# EAGLE library part ATLAS-SENSOR (library Webmaster442)
Atlas Scientific Sensors http://www.atlas-scientific.com/
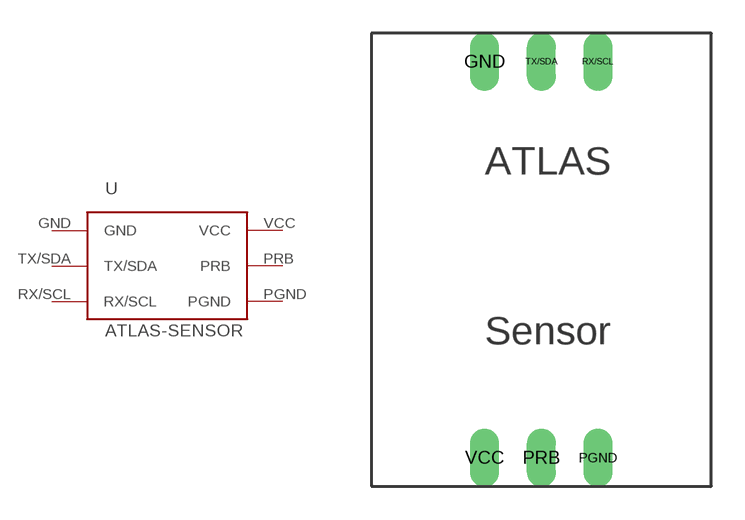
[diagram p21: symbol with the pads of ATLAS-SENSOR; footprint ATLAS-SENSOR]

Designator prefix -

## ATLAS-SENSOR  [ATLAS-SENSOR]
GND  GND
PGND  PGND
PRB  PRB
RX/SCL  RX/SCL
TX/SDA  TX/SDA
VCC  VCC

## Footprint ATLAS-SENSOR (pad centres in mm)
drill 0.8 long: GND -2.54,7.62; PGND 2.54,-10.16; PRB 0,-10.16; RX/SCL 2.54,7.62; TX/SDA 0,7.62; VCC -2.54,-10.16